# EAGLE library part 74FST3125* (library Fairchild)
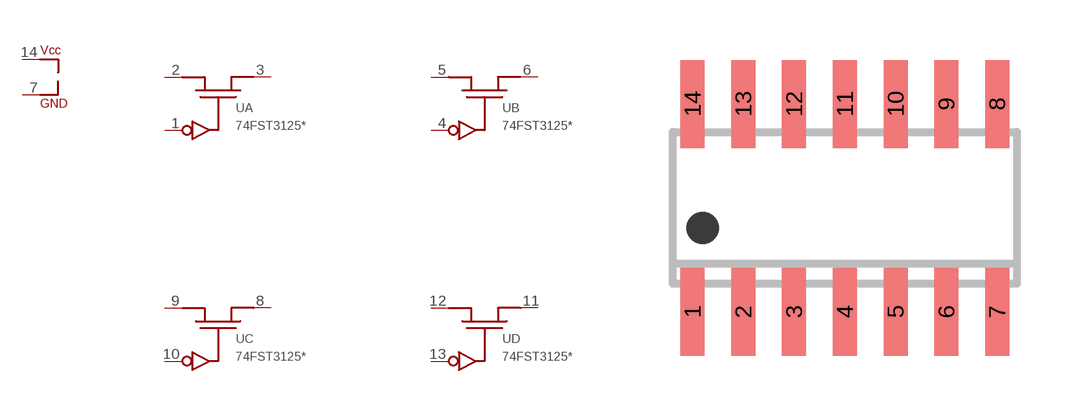
[diagram p2: symbol with the pads of SO14; footprint SO14]

Designator prefix -; gates A=BUS_SWITCH B=BUS_SWITCH C=BUS_SWITCH D=BUS_SWITCH G$5=BUS_SWITCH_PWR

## 74FST3125M  [SO14]
1  A:!OE
2  A:A
3  A:B
4  B:!OE
5  B:A
6  B:B
7  G$5:GND
8  C:B
9  C:A
10  C:!OE
11  D:B
12  D:A
13  D:!OE
14  G$5:VCC

## 74FST3125MX  [SO14]
Pads as for SO14

## Footprint SO14 (pad centres in mm)
SMALL OUTLINE INTEGRATED CIRCUIT body 3.9 mm/JEDEC MS-012AC
smd 0.6 x 2.2: 1 -3.81,-2.6; 2 -2.54,-2.6; 3 -1.27,-2.6; 4 0,-2.6; 5 1.27,-2.6; 6 2.54,-2.6; 7 3.81,-2.6; 8 3.81,2.6; 9 2.54,2.6; 10 1.27,2.6; 11 0,2.6; 12 -1.27,2.6; 13 -2.54,2.6; 14 -3.81,2.6